# Altium footprint library Diode_Vishay_TLDR4900_eec_0.PcbLib: 1 footprints
Each footprint in its own frame and in the unit in brackets; x right, y up, seen from the top. Pads: shape width x height; smd on the part's side, far side on the other; paste and mask are expansions set on the pad; w line width, h text height; cw(c..) or ccw(c..) is an arc to the next point about the centre after c.
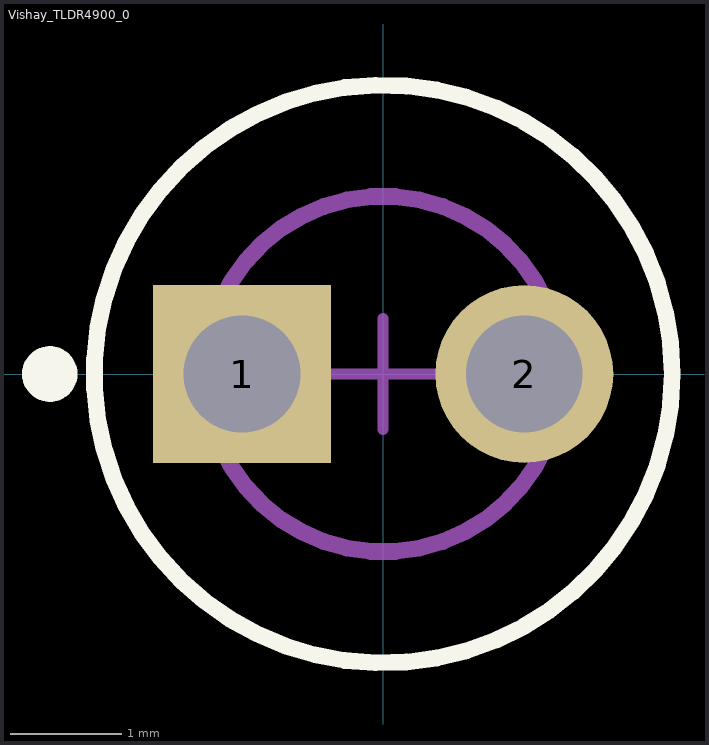
[diagram p0: the footprint, top view; thin cyan lines are the x and y axes]

## Vishay_TLDR4900_0 [mm]
pads (2):
  rect 1.6x1.6 hole 1.05 paste-1000 mask+0: 1(-1.27,0)
  round 1.6 hole 1.05 paste-1000 mask+0: 2(1.27,0)
Top Overlay:
  circle w0.15: c0,0 r2.6
  circle w0.25: c-3,0 r0.125
Mechanical 10:
  text ".Designator" at 0,0 h1
Mechanical 12:
  circle w0.15: c0,0 r1.6
Mechanical 15:
  lines w0.1: -0.5,0 0.5,0 ; 0,-0.5 0,0.5
3D body "3dmodel.step": height 0.25, standoff 0